# Altium footprint library TRANS_POWER.PcbLib: 19 footprints (part 2 of 2)
Each footprint in its own frame and in the unit in brackets; x right, y up, seen from the top. Pads: shape width x height; smd on the part's side, far side on the other; paste and mask are expansions set on the pad; w line width, h text height; cw(c..) or ccw(c..) is an arc to the next point about the centre after c.
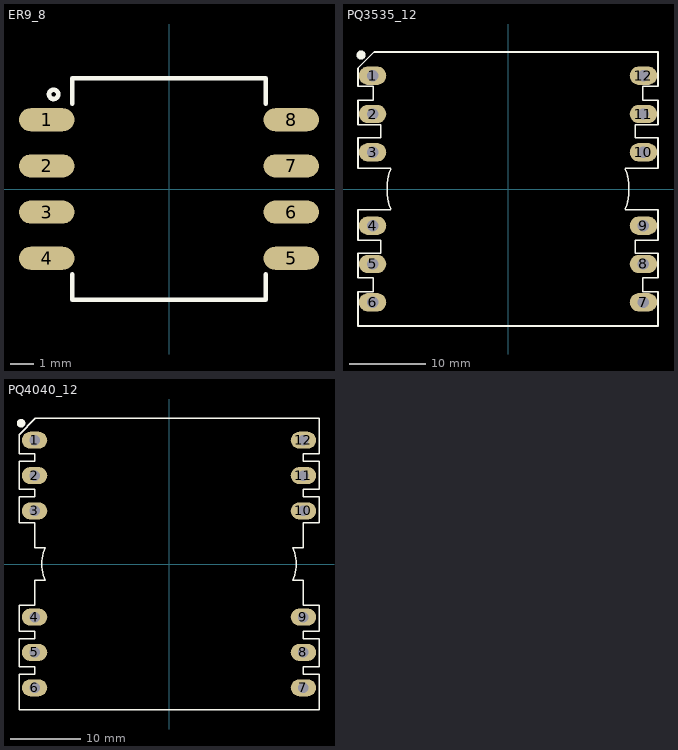
[diagram p1: the footprints below, top view; thin cyan lines are the x and y axes]

## ER9_8 [mm] "TRANS, ER9.5/5  9.5X5mm, pitch: 3.75mm"
height 4
pads (8):
  oval 2.4x1 smd: 1(-5.3,3) 2(-5.3,1) 3(-5.3,-1) 4(-5.3,-3) 5(5.3,-3) 6(5.3,-1) 7(5.3,1) 8(5.3,3)
Top Overlay:
  circle w0.2: c-5,4.1 r0.2
  lines w0.2: -4.2,-3.7 -4.2,-4.8 4.2,-4.8 4.2,-3.7 ; -4.2,3.7 -4.2,4.8 4.2,4.8 4.2,3.7
3D body "ER9_5.STEP": height 5.25, standoff 0, extent -5.8,-4.75 5.8,4.75

## PQ3535_12 [mm] "TRANS, PQ35/35_6+6  35X35X26mm, pitch: 5.08mm"
height 35
pads (12):
  oval 3.6x2.4 hole 1.5: 1(-17.7,14.8) 2(-17.7,9.8) 3(-17.7,4.8) 4(-17.7,-4.8) 5(-17.7,-9.8) 6(-17.7,-14.8) 7(17.7,-14.8) 8(17.7,-9.8) 9(17.7,-4.8) 10(17.7,4.8) 11(17.7,9.8) 12(17.7,14.8)
Top Overlay:
  circle w0.6: c-19.2,17.5 r0.3
  lines w0.2: -15.348,-2.565 cw(c-8.3,0) -15.348,2.565 ; -15.3,-2.7 -19.6,-2.7 -19.6,-6.7 -16.6,-6.7 -16.6,-8.4 -19.6,-8.4 -19.6,-11.6 -17.6,-11.6 -17.6,-13.4 -19.6,-13.4 -19.6,-17.9 19.6,-17.9 19.6,-13.4 17.6,-13.4 17.6,-11.6 19.6,-11.6 19.6,-8.4 16.6,-8.4 16.6,-6.7 19.6,-6.7 19.6,-2.7 15.3,-2.7 ; -15.3,2.7 -19.6,2.7 -19.6,6.7 -16.6,6.7 -16.6,8.4 -19.6,8.4 -19.6,11.6 -17.6,11.6 -17.6,13.4 -19.6,13.4 -19.6,15.8 -17.5,17.9 19.6,17.9 19.6,13.4 17.6,13.4 17.6,11.6 19.6,11.6 19.6,8.4 16.6,8.4 16.6,6.7 19.6,6.7 19.6,2.7 15.3,2.7 ; 15.348,-2.565 ccw(c8.3,0) 15.348,2.565
3D body "PQ3535(6+6).step": height 37.75, standoff -4, extent -19.5,-17.75 19.5,17.75

## PQ4040_12 [mm] "TRANS, PQ40/40_6+6  40X40X28mm, pitch: 5.08mm"
height 40
pads (12):
  oval 3.6x2.4 hole 1.5: 1(-19,17.5) 2(-19,12.5) 3(-19,7.5) 4(-19,-7.5) 5(-19,-12.5) 6(-19,-17.5) 7(19,-17.5) 8(19,-12.5) 9(19,-7.5) 10(19,7.5) 11(19,12.5) 12(19,17.5)
Top Overlay:
  circle w0.6: c-20.9,19.9 r0.3
  lines w0.2: -17.5,-2.3 -19,-2.3 -19,-5.8 -21.2,-5.8 -21.2,-9.5 -19,-9.5 -19,-10.6 -21.2,-10.6 -21.2,-14.5 -19,-14.5 -19,-15.6 -21.2,-15.6 -21.2,-20.6 21.2,-20.6 21.2,-15.6 19,-15.6 19,-14.5 21.2,-14.5 21.2,-10.6 19,-10.6 19,-9.5 21.2,-9.5 21.2,-5.8 19,-5.8 19,-2.3 17.5,-2.3 ; -17.5,2.3 -19,2.3 -19,5.8 -21.2,5.8 -21.2,9.5 -19,9.5 -19,10.6 -21.2,10.6 -21.2,14.5 -19,14.5 -19,15.6 -21.2,15.6 -21.2,18.3 -18.9,20.6 21.2,20.6 21.2,15.6 19,15.6 19,14.5 21.2,14.5 21.2,10.6 19,10.6 19,9.5 21.2,9.5 21.2,5.8 19,5.8 19,2.3 17.5,2.3 ; -17.485,-2.324 cw(c-12.5,0) -17.485,2.324 ; 17.485,-2.324 ccw(c12.5,0) 17.485,2.324
3D body "PQ4040(6+6).step": height 44.05, standoff -4, extent -21.1,-20.45 21.1,20.45